# EAGLE library part MC33926 (library ASL)
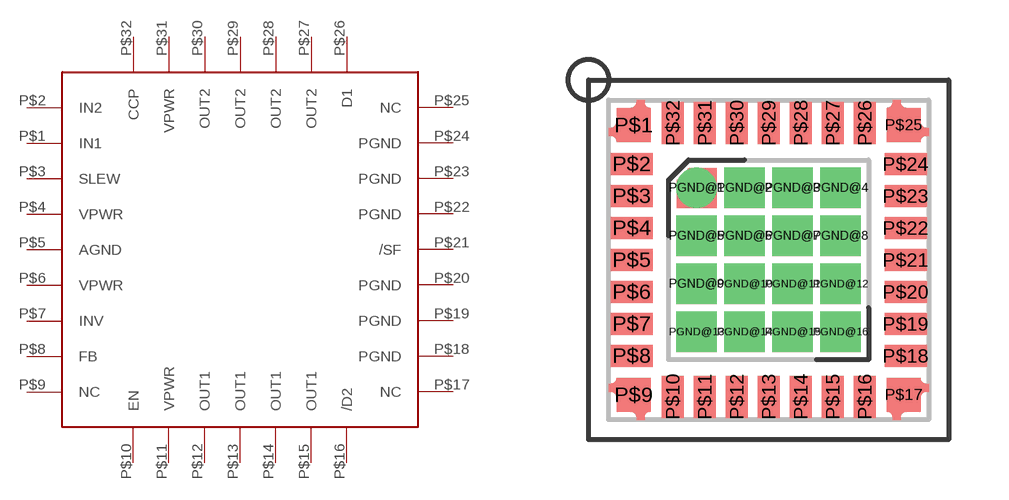
[diagram p22: symbol with the pads of PQFN32; footprint PQFN32]

Designator prefix -

## MC33926PQFN  [PQFN32]
P$1  IN1  in
P$2  IN2  in
P$3  SLEW  in
P$4  VPWR  pwr
P$5  AGND  pwr
P$6  VPWR  pwr
P$7  INV  in
P$8  FB  out
P$9  NC  nc
P$10  EN  in
P$11  VPWR  pwr
P$12  OUT1  out
P$13  OUT1  out
P$14  OUT1  out
P$15  OUT1  out
P$16  /D2  in
P$17  NC  nc
P$18  PGND  pwr
P$19  PGND  pwr
P$20  PGND  pwr
P$21  /SF  out
P$22  PGND  pwr
P$23  PGND  pwr
P$24  PGND  pwr
P$25  NC  nc
P$26  D1  in
P$27  OUT2  out
P$28  OUT2  out
P$29  OUT2  out
P$30  OUT2  out
P$31  VPWR  pwr
P$32  CCP
PGND@1  GND  pwr
PGND@2  GND  pwr
PGND@3  GND  pwr
PGND@4  GND  pwr
PGND@5  GND  pwr
PGND@6  GND  pwr
PGND@7  GND  pwr
PGND@8  GND  pwr
PGND@9  GND  pwr
PGND@10  GND  pwr
PGND@11  GND  pwr
PGND@12  GND  pwr
PGND@13  GND  pwr
PGND@14  GND  pwr
PGND@15  GND  pwr
PGND@16  GND  pwr

## Footprint PQFN32 (pad centres in mm)
smd 0.85 x 0.85: P$1 -3.375,3.375; P$9 -3.375,-3.375; P$17 3.375,-3.375; P$25 3.375,3.375
smd 1.05 x 0.55: P$2 -3.425,2.4; P$3 -3.425,1.6; P$4 -3.425,0.8; P$5 -3.425,0; P$6 -3.425,-0.8; P$7 -3.425,-1.6; P$8 -3.425,-2.4; P$18 3.425,-2.4; P$19 3.425,-1.6; P$20 3.425,-0.8; P$21 3.425,0; P$22 3.425,0.8; P$23 3.425,1.6; P$24 3.425,2.4
smd 0.55 x 1.05: P$10 -2.4,-3.425; P$11 -1.6,-3.425; P$12 -0.8,-3.425; P$13 0,-3.425; P$14 0.8,-3.425; P$15 1.6,-3.425; P$16 2.4,-3.425; P$26 2.4,3.425; P$27 1.6,3.425; P$28 0.8,3.425; P$29 0,3.425; P$30 -0.8,3.425; P$31 -1.6,3.425; P$32 -2.4,3.425
drill 0.5: PGND@1 -1.8,1.8
drill 0.5 square: PGND@2 -0.6,1.8; PGND@3 0.6,1.8; PGND@4 1.8,1.8; PGND@5 -1.8,0.6; PGND@6 -0.6,0.6; PGND@7 0.6,0.6; PGND@8 1.8,0.6; PGND@9 -1.8,-0.6; PGND@10 -0.6,-0.6; PGND@11 0.6,-0.6; PGND@12 1.8,-0.6; PGND@13 -1.8,-1.8; PGND@14 -0.6,-1.8; PGND@15 0.6,-1.8; PGND@16 1.8,-1.8